# EAGLE library part HTRC11001T/02EE,11 (library HTRC11001T)
CNTCLESS RC, 125KHZ,14-SOIC
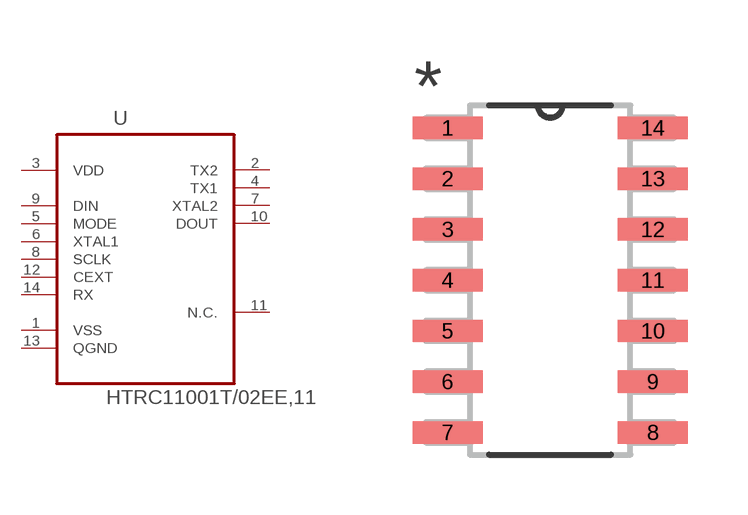
[diagram p0: symbol with the pads of SOIC127P600X175-14N; footprint SOIC127P600X175-14N]

Designator prefix U

## HTRC11001T/02EE,11 (MPN: HTRC11001T/02EE,11; OC_FARNELL: 1902850; OC_NEWARK: 58T9571; PACKAGE: 14-SOIC; SUPPLIER: NXP)  [SOIC127P600X175-14N]
1  VSS  pwr
2  TX2  out
3  VDD  pwr
4  TX1  out
5  MODE  pas
6  XTAL1  in
7  XTAL2  out
8  SCLK  in
9  DIN  in
10  DOUT  out
11  N.C.  nc
12  CEXT  pas
13  QGND  pas
14  RX  in

## Footprint SOIC127P600X175-14N (pad centres in mm)
smd 1.753 x 0.559: 1 -2.565,3.81; 2 -2.565,2.54; 3 -2.565,1.27; 4 -2.565,0; 5 -2.565,-1.27; 6 -2.565,-2.54; 7 -2.565,-3.81; 8 2.565,-3.81; 9 2.565,-2.54; 10 2.565,-1.27; 11 2.565,0; 12 2.565,1.27; 13 2.565,2.54; 14 2.565,3.81